# Altium footprint library Capacitors.PcbLib: 21 footprints (part 1 of 2)
Each footprint in its own frame and in the unit in brackets; x right, y up, seen from the top. Pads: shape width x height; smd on the part's side, far side on the other; paste and mask are expansions set on the pad; w line width, h text height; cw(c..) or ccw(c..) is an arc to the next point about the centre after c.
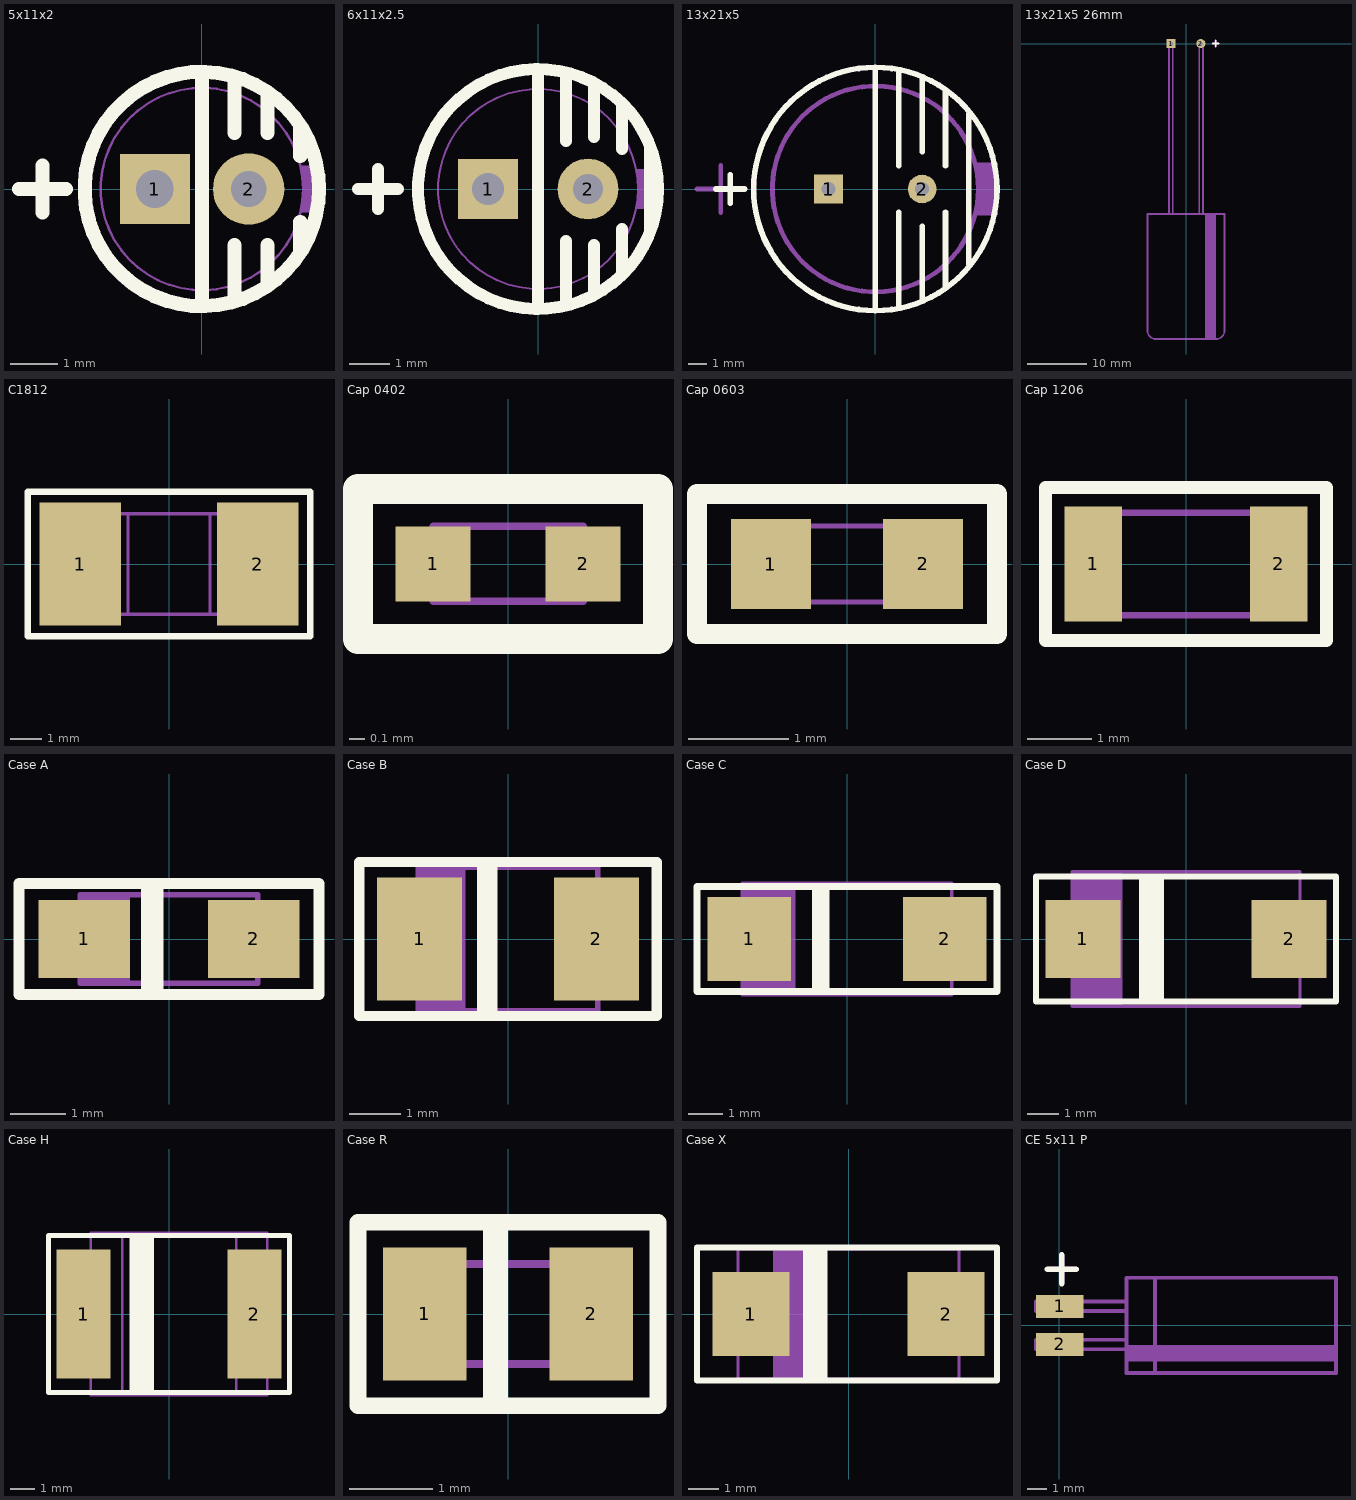
[diagram p0: the footprints below, top view; thin cyan lines are the x and y axes]

## 5x11x2 [mm]
pads (2):
  rect 1.5x1.5 hole 0.8 mask+0.076: 1(-1,0)
  round 1.524 hole 0.762 mask+0.076: 2(1,0)
Top Overlay:
  circle w0.3: c0,0 r2.5
  lines w0.3: -3.9,0 -2.9,0 ; -3.4,-0.5 -3.4,0.5 ; 0,-2.492 0,2.413 ; 0.7,-2.375 0.7,-1.2 ; 0.7,1.2 0.7,2.35 ; 1.4,-2.025 1.4,-1.2 ; 1.4,1.2 1.4,2.025 ; 2.1,-1.325 2.1,-0.7 ; 2.1,0.7 2.1,1.3
Mechanical 3:
  circle w0.05: c0,0 r2.5
  circle w0.05: c0,0 r2.159
  region: 2.109,-0.5 2.45,-0.5 2.5,0 2.45,0.5 2.109,0.5 2.159,0
  lines w0.05: -3.9,0 -2.9,0 ; -3.4,-0.5 -3.4,0.5
  text ".Comment" at -1.6,-1.4 h0.8
  text ".Designator" at -1,1.4 h0.8
3D body "Cap electro 5x11x2mm.step": height 11.53, standoff -3.27, extent -2.525,-2.525 2.526,2.526

## 6x11x2.5 [mm]
pads (2):
  rect 1.5x1.5 hole 0.8 mask+0.076: 1(-1.25,0)
  round 1.524 hole 0.762 mask+0.076: 2(1.25,0)
Top Overlay:
  circle w0.3: c0,0 r3
  lines w0.3: -4.5,0 -3.5,0 ; -4,-0.5 -4,0.5 ; 0,-3 0,3 ; 0.7,-2.9 0.7,-1.3 ; 0.7,1.2 0.7,2.8 ; 1.4,-2.6 1.4,-1.4 ; 1.4,1.3 1.4,2.6 ; 2.1,-2.1 2.1,-1 ; 2.1,1 2.1,2.1 ; 2.8,-1 2.8,1
Mechanical 3:
  circle w0.05: c0,0 r3
  circle w0.05: c0,0 r2.5
  region: 2.45,-0.5 2.975,-0.5 2.975,0.5 2.45,0.5 2.5,0
  lines w0.05: -4.5,0 -3.5,0 ; -4,-0.5 -4,0.5
  text ".Designator" at -1.5,1.5 h0.8
  text ".Comment" at -1.5,-1.9 h0.8
3D body "Cap electro 6_3x11x2_5mm.step": height 11.53, standoff -3.01, extent -3.176,-3.176 3.175,3.175

## 13x21x5 [mil]
pads (2):
  rect 60x60 hole 30: 1(-98.43,0)
  round 60 hole 30: 2(98.43,0)
Top Overlay:
  circle w11.81: c0,0 r255.91
  lines w11.81: -335,0 -275,0 ; -305,-30 -305,30 ; 0,-255.89 0,255.85 ; 49.21,-246.06 49.21,-49.21 ; 49.21,49.21 49.21,246.06 ; 98.43,-236.22 98.43,-78.74 ; 98.43,78.74 98.43,236.22 ; 147.64,-206.69 147.64,-49.21 ; 147.64,49.21 147.64,206.69 ; 196.85,-157.48 196.85,157.48
Mechanical 3:
  circle w10: c0,0 r216.54
  circle w10: c0,0 r255.91
  rectangle: 216.54,-49.98 255.82,50.02
  lines w10: -375,0 -275,0 ; -325,-50 -325,50
  lines w11.81: 213.59,-49.98 249.02,-49.98 ; 213.59,50.02 250,50.02
  text ".Comment" at -147.64,-147.64 h60
  text ".Designator" at -117.13,280.51 h60
3D body "User Library-Cap electrolitic radial 13x21.STEP": height 858.27, standoff -27.56, extent -255.81,-255.89 255.82,255.85

## 13x21x5 26mm [mil]
pads (2):
  rect 60x60 hole 30: 1(-98.43,0)
  round 60 hole 30: 2(98.43,0)
Top Overlay:
  lines w11.81: 177.17,0 216.54,0 ; 196.85,-19.68 196.85,19.68
Mechanical 3:
  rectangle: 127.17,-1957.44 200,-1130
  lines w11.81: -255.06,-1902.38 ccw(c-200,-1902.38) -200,-1957.44 200,-1957.44 ccw(c200,-1902.38) 255.06,-1902.38 ; -255,-1902.38 -255,-1130 255,-1130 255,-1902.38 ; -112.05,-1128.94 -112.05,-0.98 -88.43,-0.98 -88.43,-1127.95 ; 88.43,-1127.95 88.43,-0.98 112.05,-0.98 112.05,-1128.94 ; 175.71,0 215.08,0 ; 195.39,-19.68 195.39,19.68
3D body "User Library-Cap electrolitic radial 13x21mm 26mm.STEP": height 531.48, standoff -47.24, extent -255.82,-1958.5 255.81,10

## C1812 [mm]
pads (2):
  rect 2.6x3.9 smd: 1(-2.825,0) 2(2.825,0)
Top Overlay:
  lines w0.2: -4.5,-2.3 -4.5,2.3 4.5,2.3 4.5,-2.3 -4.5,-2.3
Mechanical 1:
  lines w0.1: -1.3,-1.6 -1.3,1.6 ; 1.3,-1.6 1.3,1.6 ; -2.3,-1.6 2.3,-1.6 2.3,1.6 -2.3,1.6 -2.3,-1.6
  text ".Designator" at -2,2.1 h1
  text ".Comment" at -1.2,-0.2 h1
3D body "1812 SMD Capacitor.step": height 1.6, standoff 0, extent -2.25,-1.6 2.25,1.6

## Cap 0402 [mm]
pads (2):
  rect 0.5x0.5 smd mask+0.076: 1(-0.5,0) 2(0.5,0)
Top Overlay:
  lines w0.2: -1,-0.5 -1,0.5 1,0.5 1,-0.5 -1,-0.5
Mechanical 1:
  lines w0.05: -0.3,-0.25 -0.3,0.25 ; 0.3,-0.25 0.3,0.25 ; -0.5,-0.25 0.5,-0.25 0.5,0.25 -0.5,0.25 -0.5,-0.25
  text ".Designator" at -0.5,0.475 h0.8
  text ".Comment" at -0.25,-0.05 h0.2
3D body "Capacitor 0402.step": height 0.5, standoff 0, extent -0.5,-0.246 0.5,0.254

## Cap 0603 [mm]
pads (2):
  rect 0.8x0.9 smd: 1(-0.762,0) 2(0.762,0)
Top Overlay:
  lines w0.2: -1.5,-0.7 -1.5,0.7 1.5,0.7 1.5,-0.7 -1.5,-0.7
Mechanical 1:
  lines w0.05: -0.508,-0.381 -0.508,0.381 ; 0.508,-0.381 0.508,0.381 ; -0.762,-0.381 0.762,-0.381 0.762,0.381 -0.762,0.381 -0.762,-0.381
  text ".Designator" at -1.27,0.635 h0.8
  text ".Comment" at -0.381,-0.127 h0.51
3D body "User Library-CapCeramic_Kemet_0603_1608.step": height 0.8, standoff 0, extent -0.8,-0.4 0.8,0.4

## Cap 1206 [mm]
pads (2):
  rect 0.9x1.8 smd: 1(-1.45,0) 2(1.45,0)
Top Overlay:
  lines w0.2: -2.2,-1.2 -2.2,1.2 2.2,1.2 2.2,-1.2 -2.2,-1.2
Mechanical 1:
  lines w0.1: -1.143,-0.8 -1.143,0.8 ; 1.143,-0.8 1.143,0.8 ; -1.6,-0.8 -1.6,0.8 1.6,0.8 1.6,-0.8 -1.6,-0.8
  text ".Designator" at -1.5,1.2 h0.8
  text ".Comment" at -1,-0.2 h0.8
3D body "User Library-1206 SMD Capacitor.step": height 1, standoff 0, extent -1.6,-0.8 1.6,0.8

## Case A [mm]
pads (2):
  rect 1.65x1.4 smd: 1(-1.525,0) 2(1.525,0)
Top Overlay:
  rectangle: -0.5,-1 -0.1,1
  lines w0.2: -2.7,-1 -2.7,1 2.7,1 2.7,-1 -2.7,-1
Mechanical 1:
  rectangle: -1.6,-0.8 -0.7,0.8
  lines w0.1: -1.6,-0.8 1.6,-0.8 1.6,0.8 -1.6,0.8 -1.6,-0.8
  text ".Designator" at -1.524,1.016 h0.8
  text ".Comment" at -0.508,-0.254 h0.8
3D body "User Library-AVX_A-CASE.step": height 1.71, standoff 0, extent -1.7,-0.84 1.7,0.84

## Case B [mm]
pads (2):
  rect 1.65x2.4 smd: 1(-1.725,0) 2(1.725,0)
Top Overlay:
  rectangle: -0.6,-1.5 -0.2,1.5
  lines w0.2: -2.9,-1.5 -2.9,1.5 2.9,1.5 2.9,-1.5 -2.9,-1.5
Mechanical 1:
  rectangle: -1.725,-1.4 -0.825,1.4
  lines w0.1: -1.75,-1.4 1.75,-1.4 1.75,1.4 -1.75,1.4 -1.75,-1.4
  text ".Designator" at -1.65,1.575 h0.8
  text ".Comment" at -0.75,-0.2 h0.8
3D body "User Library-AVX_B-CASE.step": height 2.03, standoff 0, extent -1.85,-1.465 1.85,1.465

## Case C [mm]
pads (2):
  rect 2.4x2.4 smd: 1(-2.8,0) 2(2.8,0)
Top Overlay:
  rectangle: -1,-1.5 -0.5,1.5
  lines w0.2: -4.3,-1.5 -4.3,1.5 4.3,1.5 4.3,-1.5 -4.3,-1.5
Mechanical 1:
  rectangle: -2.975,-1.575 -1.475,1.575
  lines w0.1: -3,-1.6 3,-1.6 3,1.6 -3,1.6 -3,-1.6
  text ".Designator" at -0.875,1.75 h0.8
  text ".Comment" at -1.4,-0.375 h0.8
3D body "User Library-AVX_C-CASE.step": height 2.7, standoff 0, extent -3.05,-1.675 3.05,1.675

## Case D [mm]
pads (2):
  rect 2.4x2.5 smd: 1(-3.3,0) 2(3.3,0)
Top Overlay:
  rectangle: -1.5,-2 -0.7,2
  lines w0.2: -4.8,-2 -4.8,2 4.8,2 4.8,-2 -4.8,-2
Mechanical 1:
  rectangle: -3.625,-2.15 -2.025,2.125
  lines w0.1: -3.65,-2.15 -3.65,2.15 3.65,2.15 3.65,-2.15 -3.65,-2.15
  text ".Comment" at -1.4,-0.375 h0.8
  text ".Designator" at -0.65,2.275 h0.8
3D body "User Library-AVX_D_CASE.step": height 3.01, standoff 0, extent -3.7,-2.225 3.7,2.225

## Case H [mm]
pads (2):
  rect 2.2x5.25 smd: 1(-3.475,0) 2(3.475,0)
Top Overlay:
  rectangle: -1.6,-3.2 -0.6,3.2
  lines w0.2: -4.9,-3.2 -4.9,3.2 4.9,3.2 4.9,-3.2 -4.9,-3.2
Mechanical 1:
  lines w0.1: -3.175,-0.762 -4.191,-0.762 -4.191,-0.508 -3.175,-0.508 ; -3.175,0.508 -4.191,0.508 -4.191,0.762 -3.175,0.762 ; -1.905,-3.3 -1.905,3.3 ; 2.73,-3.3 2.73,3.3 ; -3.175,-3.3 -3.175,3.3 4,3.3 4,-3.3 -3.175,-3.3
  text "'.Designator'" at -2.921,3.683 h1.5
  text "'.Comment'" at -1.905,-0.381 h1.5
3D body "Case H.step": height 8, standoff 0, extent -4.22,-3.3 4.22,3.3

## Case R [mm]
pads (2):
  rect 1x1.6 smd: 1(-1,0) 2(1,0)
Top Overlay:
  rectangle: -0.3,-1.1 0,1.1
  lines w0.2: -1.8,-1.1 -1.8,1.1 1.8,1.1 1.8,-1.1 -1.8,-1.1
Mechanical 1:
  rectangle: -1.025,-0.6 -0.525,0.6
  lines w0.1: -1.025,-0.6 1.025,-0.6 1.025,0.6 -1.025,0.6 -1.025,-0.6
  text ".Designator" at 0.4,1.025 h0.8
  text ".Comment" at -0.45,-0.175 h0.6
3D body "User Library-Tantalum Capacitor Case R.STEP": height 1.35, standoff 0, extent -1.116,-0.685 1.134,0.665

## Case X [mm] "Case X"
height 4
pads (2):
  rect 2.55x2.77 smd: 1(-3.22,0) 2(3.22,0)
Top Overlay:
  rectangle: -1.5,-2.2 -0.7,2.2
  lines w0.2: -5,-2.2 4.9,-2.2 4.9,2.2 -5,2.2 -5,-2.2
Mechanical 1:
  rectangle: -2.5,-2.15 -1.4,2.15
  lines w0.1: -3.65,-2.15 3.65,-2.15 3.65,2.15 -3.65,2.15 -3.65,-2.15
  text "'.Comment'" at -1.3,-0.2 h1
  text "'.Designator'" at -3.5,2.7 h1
3D body "User Library-CaseX_7343-43.step": height 4.02, standoff 0.02, extent -3.65,-2.15 3.65,2.15

## CE 5x11 P [mm]
pads (2):
  rect 2.5x1.2 smd: 1(0.017,1) 2(0.017,-1)
Top Overlay:
  lines w0.3: -0.633,2.95 0.867,2.95 ; 0.117,2.2 0.117,3.7
Mechanical 1:
  region: 14.517,-1.016 3.517,-1.016 3.517,-1.905 14.517,-1.905
  lines w0.2: 5.017,-2.5 5.017,2.5 ; -1.233,-1.25 3.517,-1.25 3.517,-0.75 -1.233,-0.75 -1.233,-1.25 ; -1.233,0.75 3.517,0.75 3.517,1.25 -1.233,1.25 -1.233,0.75 ; 3.517,-2.5 3.517,2.5 14.517,2.5 14.517,-2.5 3.517,-2.5
  lines w0.3: -0.608,2.95 0.867,2.95 ; 0.117,2.225 0.117,3.675
  text ".Designator" at 5.533,3.627 h1.52
  text ".Comment" at 5.533,-4.373 h1.52